# Altium integrated library xc7k160t.IntLib: 62 symbols (part 2 of 2)
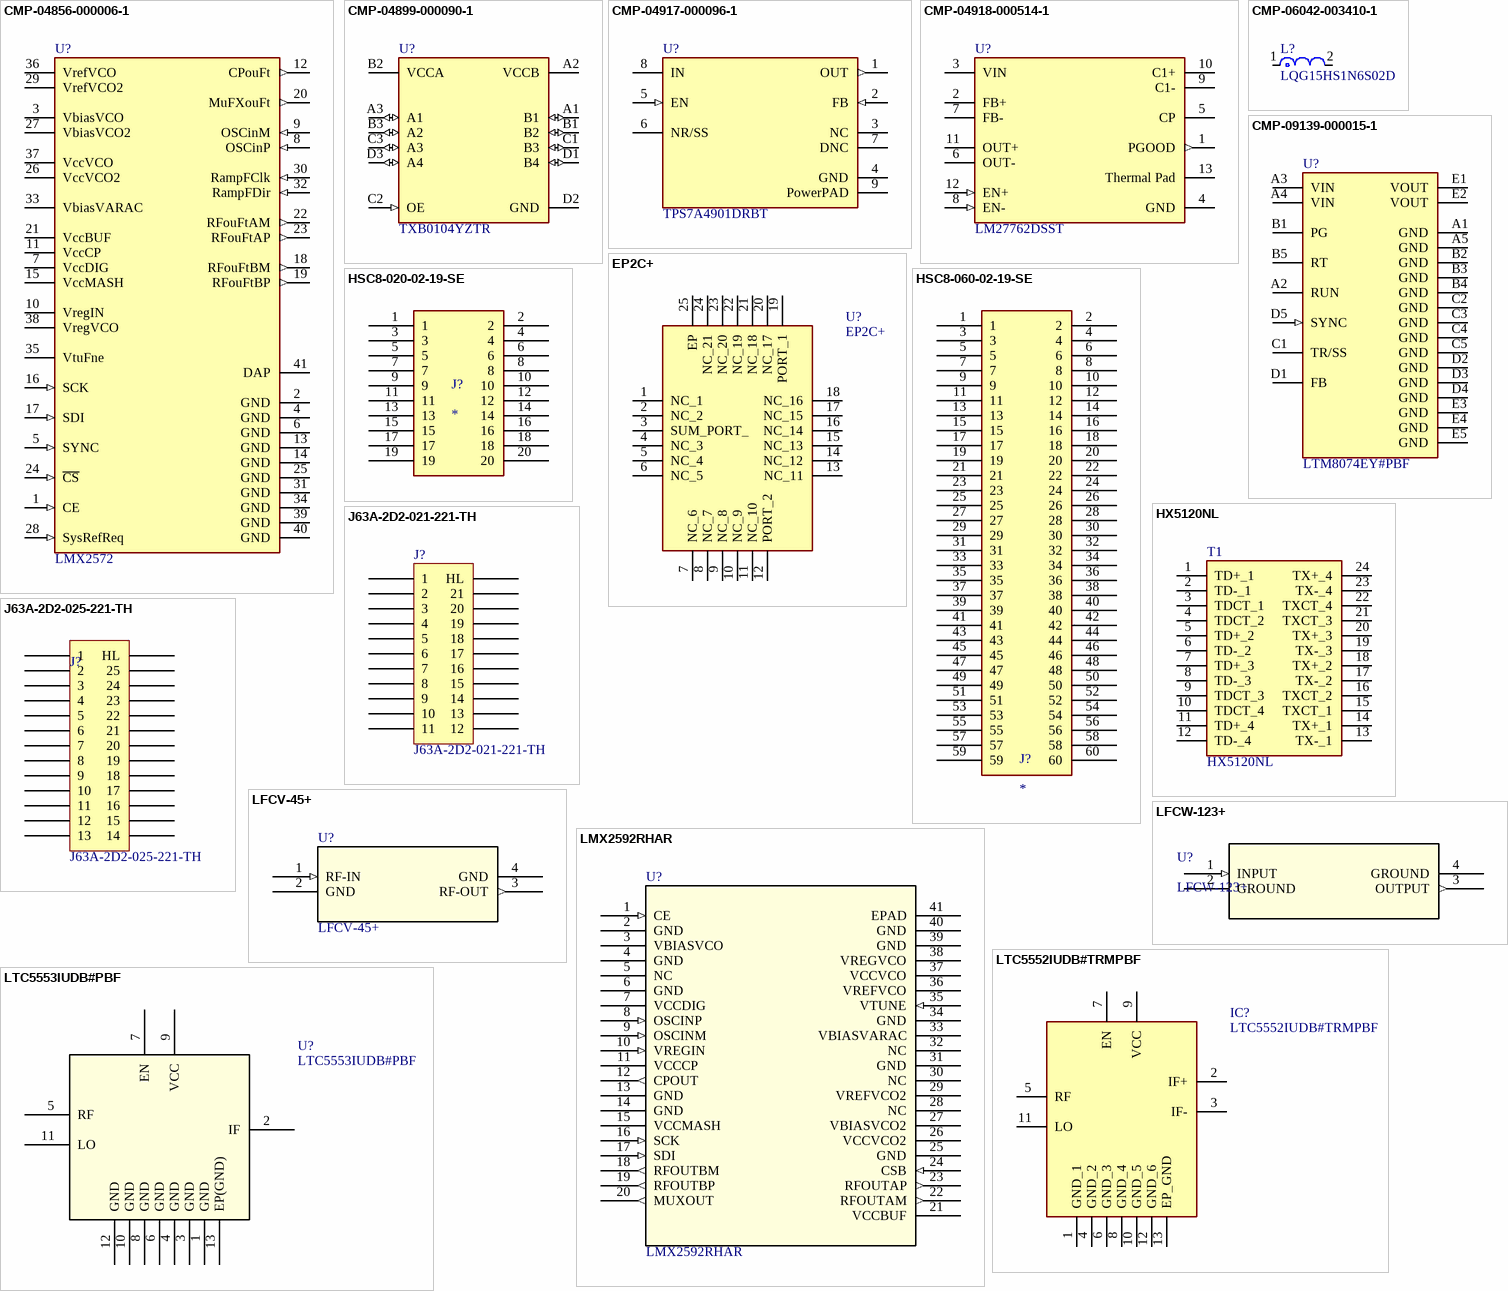
[diagram p7: symbols CMP-04856-000006-1 to LTC5553IUDB#PBF]

## CMP-06042-003410-1
designator L?, comment LQG15HS1N6S02D
Multilayer type RF Inductor 1.6nH ±0.3nH 0.07Ω 1000mA 0402; Max DC Current: 300mA; Shielding: Unshielded; Test Frequency: 100MHz; Core Material: Air; Self Resonant Frequency: 6GHz; Q Factor: 8; DC Resistance (DCR): 100mR; Termination: SMD/SMT; Height - Seated (Max): 0.022inch; Inductance: 1.6nH; Max Operating Temperature: 125°C; Length: 1mm; Mount: Surface Mount; Packaging: Tape and Reel; Case Code (Metric): 1005; Military Standard: Not; Lead Free: Lead Free; Height: 0.5mm; Package Quantity: 10000; Depth: 0.55mm; DC Current: 300mA; Width: 0.5mm; Current Rating: 300mA; Case Code (Imperial): 0402; Case/Package: 0402; Min Operating Temperature: -55°C
footprint FP-LQG15HH_02-IPC_B
footprint FP-LQG15HH_02-IPC_C
footprint FP-LQG15HH_02-MFG
footprint FP-LQG15HH_02-IPC_A
pins: 1, 2

## CMP-09139-000015-1
designator U?, comment LTM8074EY#PBF
IC REG BUCK ADJ 1.2A 25BGA; Manufacturer: Analog Devices; Output Type: AdjustableProgrammable; Standoff Height: 0.23mm; Number Of Outputs: 1; Min Supply Voltage: 3.2V; Switching Frequency: 200-2200kHz; Max Junction Temp: +125°C; Output Voltage: 0.8-12V; Nominal Supply Current: 3-8uA; Max Supply Voltage: 40V; Output Current: 1.2A; Lead Free: Yes; Device Class L3: Voltage Regulators - Switching; Device Class L1: Integrated Circuits (ICs); Ipc Land Pattern Name: BGA25N65P5X5_400X400X182; Temperature Range Low: -40°C; Category: IC; Automotive: No; Height: 1.98mm; Device Class L2: Power Management ICs; Switching Topology: Buck; Temperature Range High: +125°C; Digikey Description: IC REG BUCK ADJ 1.2A 25BGA; RoHS: TRUE; Temperature: -40°C to +125°C; ComponentLink2Description: Datasheet; Octopart: https://octopart.com/ltm8074ey%23pbf-analog+devices-95880170; Manufacturer Part Number: LTM8074EY#PBF; Mouser Description: Conv DC-DC 3.2V to 40V Step Down Single-Out 0.8V to 12V 1.2A uModule Automotive 25-Pin BGA Tray; ComponentLink2URL: https://www.analog.com/media/en/technical-documentation/data-sheets/LTM8074.pdf; Package: BGA-25-05-08-1566
footprint FP-BGA-25-05-08-1566-MFG
footprint FP-BGA-25-05-08-1566-IPC_C
footprint FP-BGA-25-05-08-1566-IPC_B
footprint FP-BGA-25-05-08-1566-IPC_A
pins: A1 GND (power), A2 RUN, A3 VIN (power), A4 VIN (power), A5 GND (power), B1 PG (oc), B2 GND (power), B3 GND (power), B4 GND (power), B5 RT, C1 TR/SS, C2 GND (power), C3 GND (power), C4 GND (power), C5 GND (power), D1 FB, D2 GND (power), D3 GND (power), D4 GND (power), D5 SYNC (in), E1 VOUT (power), E2 VOUT (power), E3 GND (power), E4 GND (power), E5 GND (power)

## EP2C+
designator U?
Mini-Circuits EP2C+ is a MMIC splitter/combiner designed for wideband operation from 1800 to 12500 MHz.; Datasheet Link: https://ww2.minicircuits.com/pdfs/EP2C+.pdf; Height: 1mm; Manufacturer_Name: Mini-Circuits; Manufacturer_Part_Number: EP2C+; Mouser Part Number: 139-EP2C; Mouser Price/Stock: https://www.mouser.co.uk/ProductDetail/Mini-Circuits/EP2C%2b/?qs=xZ%2FP%252Ba9zWqZ2j9yvL1IhNg%3D%3D
footprint EP2C (Footprint not found)
pins: 1 NC_1, 2 NC_2, 3 SUM_PORT_, 4 NC_3, 5 NC_4, 6 NC_5, 7 NC_6, 8 NC_7, 9 NC_8, 10 NC_9, 11 NC_10, 12 PORT_2, 13 NC_11, 14 NC_12, 15 NC_13, 16 NC_14, 17 NC_15, 18 NC_16, 19 PORT_1, 20 NC_17, 21 NC_18, 22 NC_19, 23 NC_20, 24 NC_21, 25 EP

## HSC8-020-02-19-SE
designator J?
HSC8 Series 0.80 mm High-Speed Riser Card; MF: Samtec; MP: HSC8-060-02-19-SE; Value: *; Check_prices: https://www.snapeda.com/parts/HSC8-060-02-19-SE/Samtec/view-part/5722136/?ref=eda; Price: None; SnapEDA_Link: https://www.snapeda.com/parts/HSC8-060-02-19-SE/Samtec/view-part/5722136/?ref=snap; Availability: Bad; Package: None
footprint HSC8-20 (Footprint not found)
pins: 1, 2, 3, 4, 5, 6, 7, 8, 9, 10, 11, 12, 13, 14, 15, 16, 17, 18, 19, 20

## HSC8-060-02-19-SE
designator J?
HSC8 Series 0.80 mm High-Speed Riser Card; MF: Samtec; MP: HSC8-060-02-19-SE; Value: *; Check_prices: https://www.snapeda.com/parts/HSC8-060-02-19-SE/Samtec/view-part/5722136/?ref=eda; Price: None; SnapEDA_Link: https://www.snapeda.com/parts/HSC8-060-02-19-SE/Samtec/view-part/5722136/?ref=snap; Availability: Bad; Package: None
footprint HSC8-60
pins: 1, 2, 3, 4, 5, 6, 7, 8, 9, 10, 11, 12, 13, 14, 15, 16, 17, 18, 19, 20, 21, 22, 23, 24, 25, 26, 27, 28, 29, 30, 31, 32, 33, 34, 35, 36, 37, 38, 39, 40, 41, 42, 43, 44, 45, 46, 47, 48, 49, 50, 51, 52, 53, 54, 55, 56, 57, 58, 59, 60

## HX5120NL
designator T1
Transformer; Manufacturer_Name: Pulse; Datasheet Link: https://componentsearchengine.com/Datasheets/1/HX5120NL.pdf; Height: 2.08mm; Manufacturer_Part_Number: HX5120NL; Mouser Part Number: 673-HX5120NL; Mouser Price/Stock: https://www.mouser.co.uk/ProductDetail/Pulse-Electronics/HX5120NL/?qs=U0ECReq1GB9jvbiAnkSVGg%3D%3D; Arrow Part Number: HX5120NL; Arrow Price/Stock: https://www.arrow.com/en/products/hx5120nl/pulse-electronics-corporation
footprint HX5120NL (Footprint not found)
pins: 1 TD+_1, 2 TD-_1, 3 TDCT_1, 4 TDCT_2, 5 TD+_2, 6 TD-_2, 7 TD+_3, 8 TD-_3, 9 TDCT_3, 10 TDCT_4, 11 TD+_4, 12 TD-_4, 13 TX-_1, 14 TX+_1, 15 TXCT_1, 16 TXCT_2, 17 TX-_2, 18 TX+_2, 19 TX-_3, 20 TX+_3, 21 TXCT_3, 22 TXCT_4, 23 TX-_4, 24 TX+_4

## J63A-2D2-021-221-TH
designator J?
J63A微矩形电连接器
footprint J63A-2D2-021-221-TH
pins: 1, 2, 3, 4, 5, 6, 7, 8, 9, 10, 11, 12, 13, 14, 15, 16, 17, 18, 19, 20, 21, 22 HL

## J63A-2D2-025-221-TH
designator J?
J63A微矩形电连接器
footprint J63A-2D2-025-221-TH
pins: 1, 2, 3, 4, 5, 6, 7, 8, 9, 10, 11, 12, 13, 14, 15, 16, 17, 18, 19, 20, 21, 22, 23, 24, 25, 26 HL

## LFCV-45+
designator U?
Mini-Circuits Low Pass Filter DC-45MHz 50Ohm; Vendor: Mini Circuits; Built_By: EMA_Cory; SourceLibrary: Mini_Circuits_2020-08-21; Datasheet: https://www.minicircuits.com/pdfs/LFCV-45+.pdf; Manufacturer_Part_Number: LFCV-45+; Copyright: Copyright (C) 2018 Accelerated Designs. All rights reserved; RefDes: RefDes; Type: DEV
footprint JV1210C_MNC-L
pins: 1 RF-IN (in), 2 GND, 3 RF-OUT (out), 4 GND

## LFCW-123+
designator U?
Low Pass Filter 50Ω DC to 12 GHz; Mfr_Name: Mini Circuits; Manufacturer_Part_Number: LFCW-1142+; Copyright: Copyright (C) 2022 Ultra Librarian. All rights reserved.; RefDes: RefDes; Type: DEV
footprint JC0603C-1_MNC-L
pins: 1 INPUT (in), 2 GROUND, 3 OUTPUT (out), 4 GROUND

## LMX2592RHAR
designator U?
The LMX2592 device is a low-noise, wideband RF. PLL with integrated VCO that supports a frequency range from 20 MHz to 9.8 GHz.; Vendor: Texas Instruments; Built_By: EMA_Jessica; SourceLibrary: TI_2019-05-10; Manufacturer_Part_Number: LMX2592RHAR; Copyright: Copyright (C) 2018 Accelerated Designs. All rights reserved; RefDes: RefDes; Type: DEV
footprint RHA40_TEX
footprint RHA40_TEX-L
pins: 1 CE (in), 2 GND (power), 3 VBIASVCO (power), 4 GND (power), 5 NC, 6 GND (power), 7 VCCDIG (power), 8 OSCINP (in), 9 OSCINM (in), 10 VREGIN (in), 11 VCCCP (power), 12 CPOUT (out), 13 GND (power), 14 GND (power), 15 VCCMASH (power), 16 SCK (in), 17 SDI (in), 18 RFOUTBM (out), 19 RFOUTBP (out), 20 MUXOUT (out), 21 VCCBUF (power), 22 RFOUTAM (out), 23 RFOUTAP (out), 24 CSB (in), 25 GND (power), 26 VCCVCO2 (power), 27 VBIASVCO2 (power), 28 NC, 29 VREFVCO2 (power), 30 NC, 31 GND (power), 32 NC, 33 VBIASVARAC (power), 34 GND (power), 35 VTUNE (in), 36 VREFVCO (power), 37 VCCVCO (power), 38 VREGVCO (power), 39 GND (power), 40 GND (power), 41 EPAD

## LTC5552IUDB#TRMPBF
designator IC?
3GHz to 20GHz Microwave Mixer with Wideband DC to 6GHz IF; Manufacturer_Name: Linear Technology; Datasheet Link: http://www.analog.com/media/en/technical-documentation/data-sheets/5552f.pdf; Manufacturer_Part_Number: LTC5552IUDB#TRMPBF
footprint LTC5552IUDB#TRMPBF
pins: 1 GND_1, 2 IF+, 3 IF-, 4 GND_2, 5 RF, 6 GND_3, 7 EN, 8 GND_4, 9 VCC, 10 GND_5, 11 LO, 12 GND_6, 13 EP_GND

## LTC5553IUDB#PBF
designator U?
3GHz to 20GHz Microwave Mixer; Value: Value; Type: Type; RefDes: RefDes
footprint QFN12_UDB_A_
pins: 1 GND, 2 IF, 3 GND, 4 GND, 5 RF, 6 GND, 7 EN, 8 GND, 9 VCC, 10 GND, 11 LO, 12 GND, 13 EP(GND)

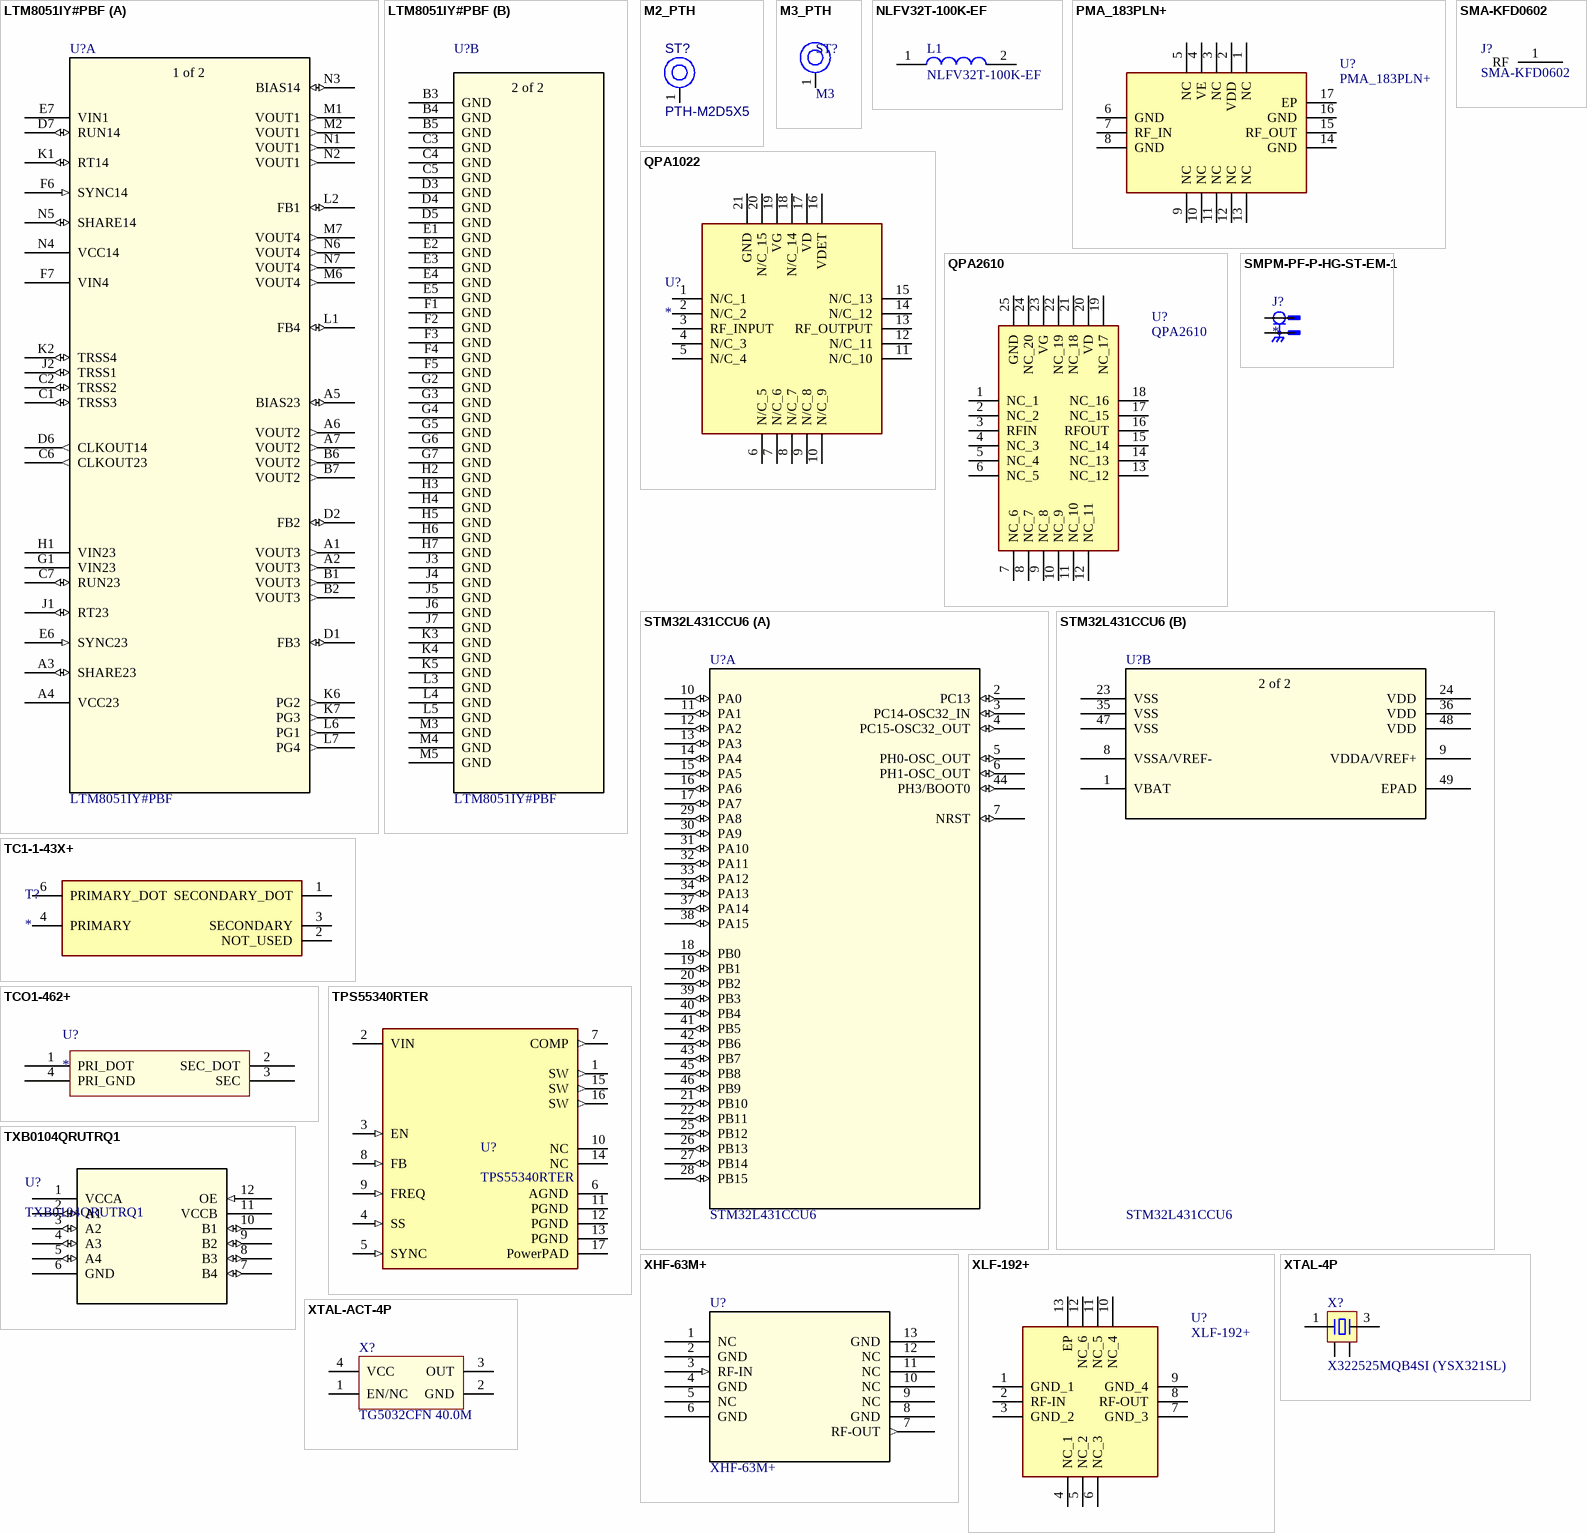
[diagram p5: symbols LTM8051IY#PBF to XTAL-ACT-4P]

## LTM8051IY#PBF
designator U?
The LTM8051 is quad 40VIN, 1.2A step-down Silent Switcher μModule® regulator.; SourceLibrary: Add_to_database_2020-12-24; Built_By: EMA_Cory; Vendor: Analog Devices Inc; Datasheet: https://www.analog.com/media/en/technical-documentation/data-sheets/ltm8051.pdf; Copyright: Copyright (C) 2018 Accelerated Designs. All rights reserved; Manufacturer_Part_Number: LTM8051IY#PBF; RefDes: RefDes; Type: DEV
footprint BGA91_11P25X6P25X2P22_ADI
part A pins: A1 VOUT3 (out), A2 VOUT3 (out), A3 SHARE23 (io), A4 VCC23 (power), A5 BIAS23 (io), A6 VOUT2 (out), A7 VOUT2 (out), B1 VOUT3 (out), B2 VOUT3 (out), B6 VOUT2 (out), B7 VOUT2 (out), C1 TRSS3 (io), C2 TRSS2 (io), C6 CLKOUT23 (out), C7 RUN23 (io), D1 FB3 (io), D2 FB2 (io), D6 CLKOUT14 (out), D7 RUN14 (io), E6 SYNC23 (in), E7 VIN1 (power), F6 SYNC14 (in), F7 VIN4 (power), G1 VIN23 (power), H1 VIN23 (power), J1 RT23 (io), J2 TRSS1 (io), K1 RT14 (io), K2 TRSS4 (io), K6 PG2 (out), K7 PG3 (out), L1 FB4 (io), L2 FB1 (io), L6 PG1 (out), L7 PG4 (out), M1 VOUT1 (out), M2 VOUT1 (out), M6 VOUT4 (out), M7 VOUT4 (out), N1 VOUT1 (out), N2 VOUT1 (out), N3 BIAS14 (io), N4 VCC14 (power), N5 SHARE14 (io), N6 VOUT4 (out), N7 VOUT4 (out)
part B pins: B3 GND, B4 GND, B5 GND, C3 GND, C4 GND, C5 GND, D3 GND, D4 GND, D5 GND, E1 GND, E2 GND, E3 GND, E4 GND, E5 GND, F1 GND, F2 GND, F3 GND, F4 GND, F5 GND, G2 GND, G3 GND, G4 GND, G5 GND, G6 GND, G7 GND, H2 GND, H3 GND, H4 GND, H5 GND, H6 GND, H7 GND, J3 GND, J4 GND, J5 GND, J6 GND, J7 GND, K3 GND, K4 GND, K5 GND, L3 GND, L4 GND, L5 GND, M3 GND, M4 GND, M5 GND
part A text: 1 of 2
part B text: 2 of 2

## M2_PTH
designator ST?, comment PTH-M2D5X5
M2 PTH (2.5mm), 5mm pad; Pins: 1; Component Type: Mechanical
footprint PTH-M2D5X5
pins: 1 H1

## M3_PTH
designator ST?, comment M3
M3 PTH; BOM名称: 铜柱孔; 版权归属: 源创客; Design Item ID: M3; Component Type: St; Source: 15.1 - 未分类器件.SchLib; 学习资源: www.ooocke.com
footprint M3 125X200 (M3螺丝孔，孔125Mil，焊盘200Mil)
footprint M3 125X300 (M3螺丝孔，孔125Mil，焊盘300Mil)
footprint M3 140X350 (M3螺丝孔，孔140Mil，焊盘350Mil)
pins: 1 H1

## NLFV32T-100K-EF
designator L1
Inductor; Manufacturer_Name: TDK; Datasheet Link: https://componentsearchengine.com/Datasheets/2/NLFV32T-100K-EF.pdf; Height: 2.4mm; Manufacturer_Part_Number: NLFV32T-100K-EF
footprint NLFV32T-100K-EF
pins: 1, 2

## PMA_183PLN+
designator U?
PMA-183PLN+ Mini-Circuits RF Amplifier SMT Low Noise Amplifier, 6000 - 18000 MHz, 50 Ohm; Manufacturer_Part_Number: MBT-283+; Datasheet Link: https://www.minicircuits.com/pdfs/MBT-283+.pdf; Height: 0.85mm; Manufacturer_Name: Mini-Circuits
footprint QFN51P250X350X85-17N
pins: 1 NC, 2 VDD, 3 NC, 4 VE, 5 NC, 6 GND, 7 RF_IN, 8 GND, 9 NC, 10 NC, 11 NC, 12 NC, 13 NC, 14 GND, 15 RF_OUT, 16 GND, 17 EP

## QPA1022
designator U?
Integrated Circuit; Manufacturer_Name: Qorvo; Manufacturer_Part_Number: QPA1022; Datasheet Link: https://eu.mouser.com/datasheet/2/412/QPA1022_Data_Sheet-1622968.pdf; Height: 0.9mm; Mouser Part Number: 772-QPA1022; Mouser Price/Stock: https://www.mouser.co.uk/ProductDetail/Qorvo/QPA1022?qs=mAH9sUMRCtvosel2CSGjYg%3D%3D
footprint QFN50P400X400X90-21N-D (Footprint not found)
pins: 1 N/C_1, 2 N/C_2, 3 RF_INPUT, 4 N/C_3, 5 N/C_4, 6 N/C_5, 7 N/C_6, 8 N/C_7, 9 N/C_8, 10 N/C_9, 11 N/C_10, 12 N/C_11, 13 RF_OUTPUT, 14 N/C_12, 15 N/C_13, 16 VDET, 17 VD, 18 N/C_14, 19 VG, 20 N/C_15, 21 GND

## QPA2610
designator U?
Qorvo's QPA2610 is a packaged, high performance power amplifier fabricated on Qorvo's production 0.15 um GaN on SiC process (QGaN15).; Manufacturer_Name: Qorvo; Datasheet Link: https://www.mouser.com/datasheet/2/412/QPA2610_Data_Sheet-1771762.pdf; Height: 0.9mm; Manufacturer_Part_Number: QPA2610; Mouser Part Number: 772-QPA2610; Mouser Price/Stock: https://www.mouser.co.uk/ProductDetail/Qorvo/QPA2610/?qs=vHuUswq2%252Bsw%252BrHm7E3gKyQ%3D%3D
footprint QFN65P500X500X90-25N-D
pins: 1 NC_1, 2 NC_2, 3 RFIN, 4 NC_3, 5 NC_4, 6 NC_5, 7 NC_6, 8 NC_7, 9 NC_8, 10 NC_9, 11 NC_10, 12 NC_11, 13 NC_12, 14 NC_13, 15 NC_14, 16 RFOUT, 17 NC_15, 18 NC_16, 19 NC_17, 20 VD, 21 NC_18, 22 NC_19, 23 VG, 24 NC_20, 25 GND

## SMA-KFD0602
designator J?
SMA Connector from Gwave
footprint SMA-KFD0602
pins: 1 RF

## SMPM-PF-P-HG-ST-EM-1
designator J?
RF Connectors / Coaxial Connectors SMPM Plug Edge Mount Full Detent; MP: SMPM-PF-P-HG-ST-EM-1; MF: Samtec; Package: None; Price: None; Availability: Unavailable; Value: *
footprint SAMTEC_SMPM-PF-P-HG-ST-EM-1
pins: 1, G1 2, G2 2, G3 2, G4 2

## STM32L431CCU6
designator U?
STM32 MCU; Vendor: STMicroelectronics; Built_By: EMA_UL_Team; SourceLibrary: Updates_to_database_2020-10-19; Manufacturer_Part_Number: STM32L431CCU6; Copyright: Copyright (C) 2018 Accelerated Designs. All rights reserved; RefDes: RefDes; Type: DEV
footprint UFQFPN48-7x7mm
part A pins: 2 PC13 (io), 3 PC14-OSC32_IN (io), 4 PC15-OSC32_OUT (io), 5 PH0-OSC_OUT (io), 6 PH1-OSC_OUT (io), 7 NRST (io), 10 PA0 (io), 11 PA1 (io), 12 PA2 (io), 13 PA3 (io), 14 PA4 (io), 15 PA5 (io), 16 PA6 (io), 17 PA7 (io), 18 PB0 (io), 19 PB1 (io), 20 PB2 (io), 21 PB10 (io), 22 PB11 (io), 25 PB12 (io), 26 PB13 (io), 27 PB14 (io), 28 PB15 (io), 29 PA8 (io), 30 PA9 (io), 31 PA10 (io), 32 PA11 (io), 33 PA12 (io), 34 PA13 (io), 37 PA14 (io), 38 PA15 (io), 39 PB3 (io), 40 PB4 (io), 41 PB5 (io), 42 PB6 (io), 43 PB7 (io), 44 PH3/BOOT0 (io), 45 PB8 (io), 46 PB9 (io)
part B pins: 1 VBAT (power), 8 VSSA/VREF- (power), 9 VDDA/VREF+ (power), 23 VSS (power), 24 VDD (power), 35 VSS (power), 36 VDD (power), 47 VSS (power), 48 VDD (power), 49 EPAD
part B text: 2 of 2

## TC1-1-43X+
designator T?
Transformer; Manufacturer_Name: Mini-Circuits; Manufacturer_Part_Number: TC1-1-43X+; Datasheet Link: https://www.minicircuits.com/pdfs/TC1-1-43X+.pdf; Height: 4.06mm; Mouser Part Number: 139-TC1-1-43X; Mouser Price/Stock: https://www.mouser.co.uk/ProductDetail/Mini-Circuits/TC1-1-43X%2b?qs=xZ%2FP%252Ba9zWqanzhvOo78BAQ%3D%3D
footprint TC1143X
pins: 1 SECONDARY_DOT, 2 NOT_USED, 3 SECONDARY, 4 PRIMARY, 6 PRIMARY_DOT

## TCO1-462+
designator U?
RF Balun 4G
footprint NK0402C (0402 Balun MiniCircuits)
pins: 1 PRI_DOT, 2 SEC_DOT, 3 SEC, 4 PRI_GND

## TPS55340RTER
designator U?
IC REG BOOST ADJ 5.25A 16WQFN
footprint FP-RTE0016C-IPC_A
pins: 1 SW (out), 2 VIN (power), 3 EN (in), 4 SS (in), 5 SYNC (in), 6 AGND (power), 7 COMP (out), 8 FB (in), 9 FREQ (in), 10 NC, 11 PGND (power), 12 PGND (power), 13 PGND (power), 14 NC, 15 SW (out), 16 SW (out), 17 PowerPAD (power)

## TXB0104QRUTRQ1
designator U?
TXB0104 4-Bit Bidirectional Voltage-level Translator With Automatic Direction Sensing and ±15-kV ESD Protection; Mfr_Name: Texas Instruments; Copyright: Copyright (C) 2022 Ultra Librarian. All rights reserved.; Manufacturer_Part_Number: TXB0104QRUTRQ1; RefDes: RefDes; Type: DEV
footprint RUT12_TEX
pins: 1 VCCA (power), 2 A1 (io), 3 A2 (io), 4 A3 (io), 5 A4 (io), 6 GND (power), 7 B4 (io), 8 B3 (io), 9 B2 (io), 10 B1 (io), 11 VCCB (power), 12 OE (in)

## XHF-63M+
designator U?
Mini-circuits MMIC Absorptive High Pass Filter; Manufacturer_Part_Number: XHF-143M+; Vendor: Mini Circuits; Built_By: EMA_Cory; SourceLibrary: Add_to_database_2021-03-25; Datasheet: https://www.minicircuits.com/pdfs/XHF-143M+.pdf; Copyright: Copyright (C) 2018 Accelerated Designs. All rights reserved; RefDes: RefDes; Type: DEV
footprint DQ1225_MNC
footprint DQ1225_MNC-L
pins: 1 NC, 2 GND, 3 RF-IN (in), 4 GND, 5 NC, 6 GND, 7 RF-OUT (out), 8 GND, 9 NC, 10 NC, 11 NC, 12 NC, 13 GND

## XLF-192+
designator U?
Mini-circuits MMIC Absorptive Low Pass Filter; Datasheet Link: https://www.mouser.com/datasheet/2/1030/XLF-192_2b-1701578.pdf; Height: 0.89mm; Manufacturer_Name: Mini-Circuits; Manufacturer_Part_Number: XLF-192+; Mouser Part Number: 139-XLF-192; Mouser Price/Stock: https://www.mouser.co.uk/ProductDetail/Mini-Circuits/XLF-192%2b?qs=xZ%2FP%252Ba9zWqaesDOuYRLivg%3D%3D
footprint QFN51P300X300X89-13N
pins: 1 GND_1, 2 RF-IN, 3 GND_2, 4 NC_1, 5 NC_2, 6 NC_3, 7 GND_3, 8 RF-OUT, 9 GND_4, 10 NC_4, 11 NC_5, 12 NC_6, 13 EP

## XTAL-4P
designator X?, comment X322525MQB4SI (YSX321SL)
4脚无源晶振; 版权归属: 源创客; BOM名称: 4脚无源晶振; 学习资源: www.ooocke.com
footprint OSC 1612-4P (1.6*1.2*0.35mm（长宽高）)
footprint OSC 2025-4P (2*2.5*0.55mm(长宽高))
footprint OSC 3225-4P (3.2*2.5*0.7mm(长宽高))
footprint OSC 4025-4P (4*2.5*0.7mm(长宽高))
footprint OSC 5032-4P (5mm*3.2mm*0.8mm(长*宽*高))
footprint OSC 6035-4P (6mm*3.5mm*1mm(长*宽*高))
footprint OSC 7050-4P (7mm*5mm*1.3mm(长*宽*高))
footprint OSC 8045-4P (8mm*4.5mm*1.6mm(长*宽*高))
footprint OSC 8045-4P-C (8mm*4.5mm*1.8mm(长*宽*高))
pins: 1, 2, 3, 4

## XTAL-ACT-4P
designator X?, comment TG5032CFN 40.0M
4脚有源晶振; 版权归属: 源创客; BOM名称: 4脚有源晶振; 学习资源: www.ooocke.com
footprint OSC 1612-4P (1.6*1.2*0.35mm（长宽高）)
footprint OSC 2025-4P (2*2.5*0.55mm(长宽高))
footprint OSC 3225-4P (3.2*2.5*0.7mm(长宽高))
footprint OSC 4025-4P (4*2.5*0.7mm(长宽高))
footprint OSC 5032-4P (5mm*3.2mm*0.8mm(长*宽*高))
footprint OSC 6035-4P (6mm*3.5mm*1mm(长*宽*高))
footprint OSC 7050-4P (7mm*5mm*1.3mm(长*宽*高))
footprint OSC 8045-4P (8mm*4.5mm*1.6mm(长*宽*高))
footprint OSC 8045-4P-C (8mm*4.5mm*1.8mm(长*宽*高))
pins: 1 EN/NC, 2 GND, 3 OUT, 4 VCC

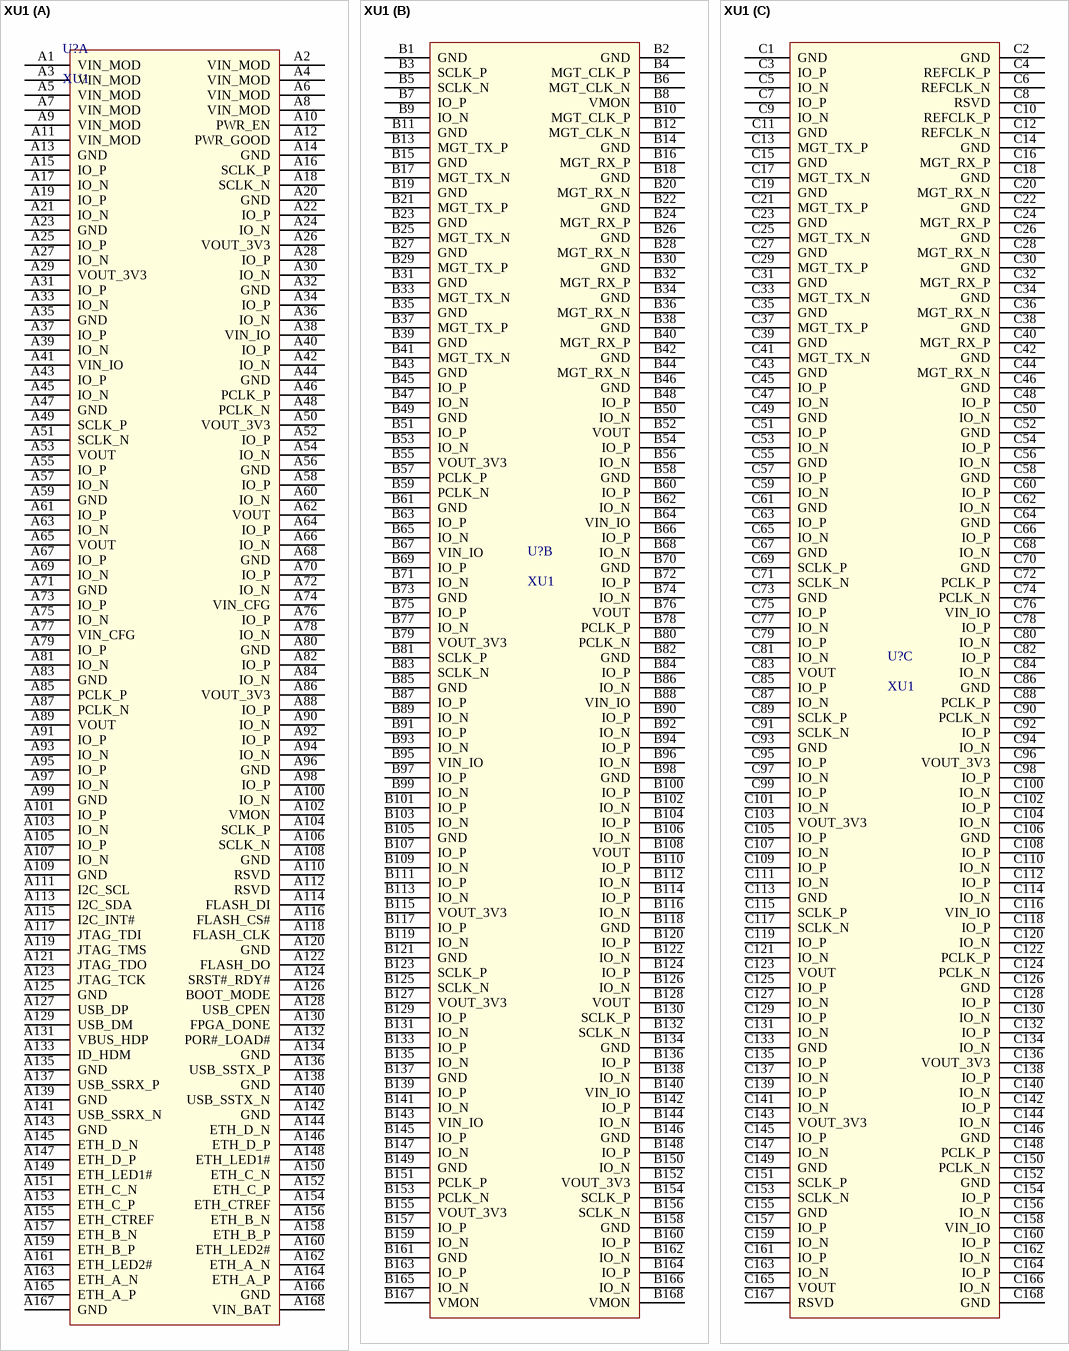
[diagram p6: symbol XU1]

## XU1
designator U?
Mercury Module XU1
footprint XU1
part A pins: A1 VIN_MOD, A2 VIN_MOD, A3 VIN_MOD, A4 VIN_MOD, A5 VIN_MOD, A6 VIN_MOD, A7 VIN_MOD, A8 VIN_MOD, A9 VIN_MOD, A10 PWR_EN, A11 VIN_MOD, A12 PWR_GOOD, A13 GND, A14 GND, A15 IO_P, A16 SCLK_P, A17 IO_N, A18 SCLK_N, A19 IO_P, A20 GND, A21 IO_N, A22 IO_P, A23 GND, A24 IO_N, A25 IO_P, A26 VOUT_3V3, A27 IO_N, A28 IO_P, A29 VOUT_3V3, A30 IO_N, A31 IO_P, A32 GND, A33 IO_N, A34 IO_P, A35 GND, A36 IO_N, A37 IO_P, A38 VIN_IO, A39 IO_N, A40 IO_P, A41 VIN_IO, A42 IO_N, A43 IO_P, A44 GND, A45 IO_N, A46 PCLK_P, A47 GND, A48 PCLK_N, A49 SCLK_P, A50 VOUT_3V3, A51 SCLK_N, A52 IO_P, A53 VOUT, A54 IO_N, A55 IO_P, A56 GND, A57 IO_N, A58 IO_P, A59 GND, A60 IO_N, A61 IO_P, A62 VOUT, A63 IO_N, A64 IO_P, A65 VOUT, A66 IO_N, A67 IO_P, A68 GND, A69 IO_N, A70 IO_P, A71 GND, A72 IO_N, A73 IO_P, A74 VIN_CFG, A75 IO_N, A76 IO_P, A77 VIN_CFG, A78 IO_N, A79 IO_P, A80 GND, A81 IO_N, A82 IO_P, A83 GND, A84 IO_N, A85 PCLK_P, A86 VOUT_3V3, A87 PCLK_N, A88 IO_P, A89 VOUT, A90 IO_N, A91 IO_P, A92 IO_P, A93 IO_N, A94 IO_N, A95 IO_P, A96 GND, A97 IO_N, A98 IO_P, A99 GND, A100 IO_N, A101 IO_P, A102 VMON, A103 IO_N, A104 SCLK_P, A105 IO_P, A106 SCLK_N, A107 IO_N, A108 GND, A109 GND, A110 RSVD, A111 I2C_SCL, A112 RSVD, A113 I2C_SDA, A114 FLASH_DI, A115 I2C_INT#, A116 FLASH_CS#, A117 JTAG_TDI, A118 FLASH_CLK, A119 JTAG_TMS, A120 GND, A121 JTAG_TDO, A122 FLASH_DO, A123 JTAG_TCK, A124 SRST#_RDY#, A125 GND, A126 BOOT_MODE, A127 USB_DP, A128 USB_CPEN, A129 USB_DM, A130 FPGA_DONE, A131 VBUS_HDP, A132 POR#_LOAD#, A133 ID_HDM, A134 GND, A135 GND, A136 USB_SSTX_P, A137 USB_SSRX_P, A138 GND, A139 GND, A140 USB_SSTX_N, A141 USB_SSRX_N, A142 GND, A143 GND, A144 ETH_D_N, A145 ETH_D_N, A146 ETH_D_P, A147 ETH_D_P, A148 ETH_LED1#, A149 ETH_LED1#, A150 ETH_C_N, A151 ETH_C_N, A152 ETH_C_P, A153 ETH_C_P, A154 ETH_CTREF, A155 ETH_CTREF, A156 ETH_B_N, A157 ETH_B_N, A158 ETH_B_P, A159 ETH_B_P, A160 ETH_LED2#, A161 ETH_LED2#, A162 ETH_A_N, A163 ETH_A_N, A164 ETH_A_P, A165 ETH_A_P, A166 GND, A167 GND, A168 VIN_BAT
part B pins: B1 GND, B2 GND, B3 SCLK_P, B4 MGT_CLK_P, B5 SCLK_N, B6 MGT_CLK_N, B7 IO_P, B8 VMON, B9 IO_N, B10 MGT_CLK_P, B11 GND, B12 MGT_CLK_N, B13 MGT_TX_P, B14 GND, B15 GND, B16 MGT_RX_P, B17 MGT_TX_N, B18 GND, B19 GND, B20 MGT_RX_N, B21 MGT_TX_P, B22 GND, B23 GND, B24 MGT_RX_P, B25 MGT_TX_N, B26 GND, B27 GND, B28 MGT_RX_N, B29 MGT_TX_P, B30 GND, B31 GND, B32 MGT_RX_P, B33 MGT_TX_N, B34 GND, B35 GND, B36 MGT_RX_N, B37 MGT_TX_P, B38 GND, B39 GND, B40 MGT_RX_P, B41 MGT_TX_N, B42 GND, B43 GND, B44 MGT_RX_N, B45 IO_P, B46 GND, B47 IO_N, B48 IO_P, B49 GND, B50 IO_N, B51 IO_P, B52 VOUT, B53 IO_N, B54 IO_P, B55 VOUT_3V3, B56 IO_N, B57 PCLK_P, B58 GND, B59 PCLK_N, B60 IO_P, B61 GND, B62 IO_N, B63 IO_P, B64 VIN_IO, B65 IO_N, B66 IO_P, B67 VIN_IO, B68 IO_N, B69 IO_P, B70 GND, B71 IO_N, B72 IO_P, B73 GND, B74 IO_N, B75 IO_P, B76 VOUT, B77 IO_N, B78 PCLK_P, B79 VOUT_3V3, B80 PCLK_N, B81 SCLK_P, B82 GND, B83 SCLK_N, B84 IO_P, B85 GND, B86 IO_N, B87 IO_P, B88 VIN_IO, B89 IO_N, B90 IO_P, B91 IO_P, B92 IO_N, B93 IO_N, B94 IO_P, B95 VIN_IO, B96 IO_N, B97 IO_P, B98 GND, B99 IO_N, B100 IO_P, B101 IO_P, B102 IO_N, B103 IO_N, B104 IO_P, B105 GND, B106 IO_N, B107 IO_P, B108 VOUT, B109 IO_N, B110 IO_P, B111 IO_P, B112 IO_N, B113 IO_N, B114 IO_P, B115 VOUT_3V3, B116 IO_N, B117 IO_P, B118 GND, B119 IO_N, B120 IO_P, B121 GND, B122 IO_N, B123 SCLK_P, B124 IO_P, B125 SCLK_N, B126 IO_N, B127 VOUT_3V3, B128 VOUT, B129 IO_P, B130 SCLK_P, B131 IO_N, B132 SCLK_N, B133 IO_P, B134 GND, B135 IO_N, B136 IO_P, B137 GND, B138 IO_N, B139 IO_P, B140 VIN_IO, B141 IO_N, B142 IO_P, B143 VIN_IO, B144 IO_N, B145 IO_P, B146 GND, B147 IO_N, B148 IO_P, B149 GND, B150 IO_N, B151 PCLK_P, B152 VOUT_3V3, B153 PCLK_N, B154 SCLK_P, B155 VOUT_3V3, B156 SCLK_N, B157 IO_P, B158 GND, B159 IO_N, B160 IO_P, B161 GND, B162 IO_N, B163 IO_P, B164 IO_P, B165 IO_N, B166 IO_N, B167 VMON, B168 VMON
part C pins: C1 GND, C2 GND, C3 IO_P, C4 REFCLK_P, C5 IO_N, C6 REFCLK_N, C7 IO_P, C8 RSVD, C9 IO_N, C10 REFCLK_P, C11 GND, C12 REFCLK_N, C13 MGT_TX_P, C14 GND, C15 GND, C16 MGT_RX_P, C17 MGT_TX_N, C18 GND, C19 GND, C20 MGT_RX_N, C21 MGT_TX_P, C22 GND, C23 GND, C24 MGT_RX_P, C25 MGT_TX_N, C26 GND, C27 GND, C28 MGT_RX_N, C29 MGT_TX_P, C30 GND, C31 GND, C32 MGT_RX_P, C33 MGT_TX_N, C34 GND, C35 GND, C36 MGT_RX_N, C37 MGT_TX_P, C38 GND, C39 GND, C40 MGT_RX_P, C41 MGT_TX_N, C42 GND, C43 GND, C44 MGT_RX_N, C45 IO_P, C46 GND, C47 IO_N, C48 IO_P, C49 GND, C50 IO_N, C51 IO_P, C52 GND, C53 IO_N, C54 IO_P, C55 GND, C56 IO_N, C57 IO_P, C58 GND, C59 IO_N, C60 IO_P, C61 GND, C62 IO_N, C63 IO_P, C64 GND, C65 IO_N, C66 IO_P, C67 GND, C68 IO_N, C69 SCLK_P, C70 GND, C71 SCLK_N, C72 PCLK_P, C73 GND, C74 PCLK_N, C75 IO_P, C76 VIN_IO, C77 IO_N, C78 IO_P, C79 IO_P, C80 IO_N, C81 IO_N, C82 IO_P, C83 VOUT, C84 IO_N, C85 IO_P, C86 GND, C87 IO_N, C88 PCLK_P, C89 SCLK_P, C90 PCLK_N, C91 SCLK_N, C92 IO_P, C93 GND, C94 IO_N, C95 IO_P, C96 VOUT_3V3, C97 IO_N, C98 IO_P, C99 IO_P, C100 IO_N, C101 IO_N, C102 IO_P, C103 VOUT_3V3, C104 IO_N, C105 IO_P, C106 GND, C107 IO_N, C108 IO_P, C109 IO_P, C110 IO_N, C111 IO_N, C112 IO_P, C113 GND, C114 IO_N, C115 SCLK_P, C116 VIN_IO, C117 SCLK_N, C118 IO_P, C119 IO_P, C120 IO_N, C121 IO_N, C122 PCLK_P, C123 VOUT, C124 PCLK_N, C125 IO_P, C126 GND, C127 IO_N, C128 IO_P, C129 IO_P, C130 IO_N, C131 IO_N, C132 IO_P, C133 GND, C134 IO_N, C135 IO_P, C136 VOUT_3V3, C137 IO_N, C138 IO_P, C139 IO_P, C140 IO_N, C141 IO_N, C142 IO_P, C143 VOUT_3V3, C144 IO_N, C145 IO_P, C146 GND, C147 IO_N, C148 PCLK_P, C149 GND, C150 PCLK_N, C151 SCLK_P, C152 GND, C153 SCLK_N, C154 IO_P, C155 GND, C156 IO_N, C157 IO_P, C158 VIN_IO, C159 IO_N, C160 IO_P, C161 IO_P, C162 IO_N, C163 IO_N, C164 IO_P, C165 VOUT, C166 IO_N, C167 RSVD, C168 GND